# Altium schematic symbol library 5400TR055A-024.SchLib: 1 symbol
Pins are listed as number, name and electrical type; pins without a type are passive.

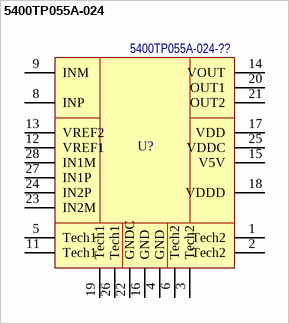
[diagram p0: symbol 5400ТР055А-024]

## 5400ТР055А-024
designator U?, comment Наименование: 5400ТР055А-024-??  (hidden comment: 5400TR055A-024)
Current consumption control chip; Назначение: Микросхема контроля потребляемого тока; Потребление, Вт: 0.0; Datasheet: https://clck.ru/3PC3vT
footprint 5123.28-1.01 (5123.28-1.01 chip footprint)
footprint 5123.28-1 (QFN, 28-Leads, Body 6,50x6,50mm, Pitch 0,70mm, IPC Medium Density)
pins: 1 Tech2, 2 Tech2, 3 Tech2, 4 GND, 5 Tech1, 6 Tech2, 8 INP, 9 INM, 11 Tech1, 12 VREF1, 13 VREF2, 14 VOUT, 15 V5V, 16 GND, 17 VDD, 18 VDDD, 19 Tech1, 20 OUT1, 21 OUT2, 22 GNDC, 23 IN2M, 24 IN2P, 25 VDDC, 26 Tech1, 27 IN1P, 28 IN1M